# Altium integrated library 10uH 1.1A.IntLib: 1 symbol
Pins are listed as number, name and electrical type; pins without a type are passive.

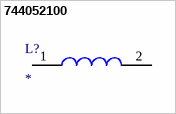
[diagram p0: symbol 744052100]

## 744052100
designator L?
Inductor; Manufacturer_Name: Wurth Elektronik; Manufacturer_Part_Number: 744052100; Description: Wurth WE-TPC Series Shielded Wire-wound SMD Inductor with a Ferrite Core; RS Part Number: 6690227; RS Price/Stock: https://uk.rs-online.com/web/p/products/6690227
footprint WE-TPC_5818/582892
pins: 1, 2